# EAGLE library part AVR-ISP-6PIN (library hqc-avr)
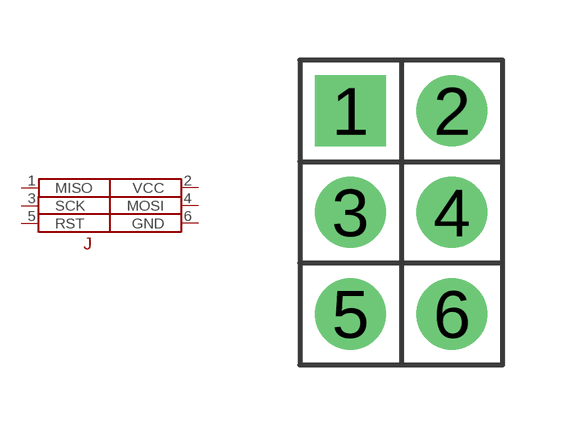
[diagram p0: symbol with the pads of AVR-ISP-6PIN; footprint AVR-ISP-6PIN]

Designator prefix J

## AVR-ISP-6PIN  [AVR-ISP-6PIN]
1  MISO
2  VCC
3  SCK
4  MOSI
5  RST
6  GND

## Footprint AVR-ISP-6PIN (pad centres in mm)
drill 0.8 pad 1.778 square: 1 -1.27,2.54
drill 0.8 pad 1.778: 2 1.27,2.54; 3 -1.27,0; 4 1.27,0; 5 -1.27,-2.54; 6 1.27,-2.54